# EAGLE library part STM32F777N (library sjg-stm32)
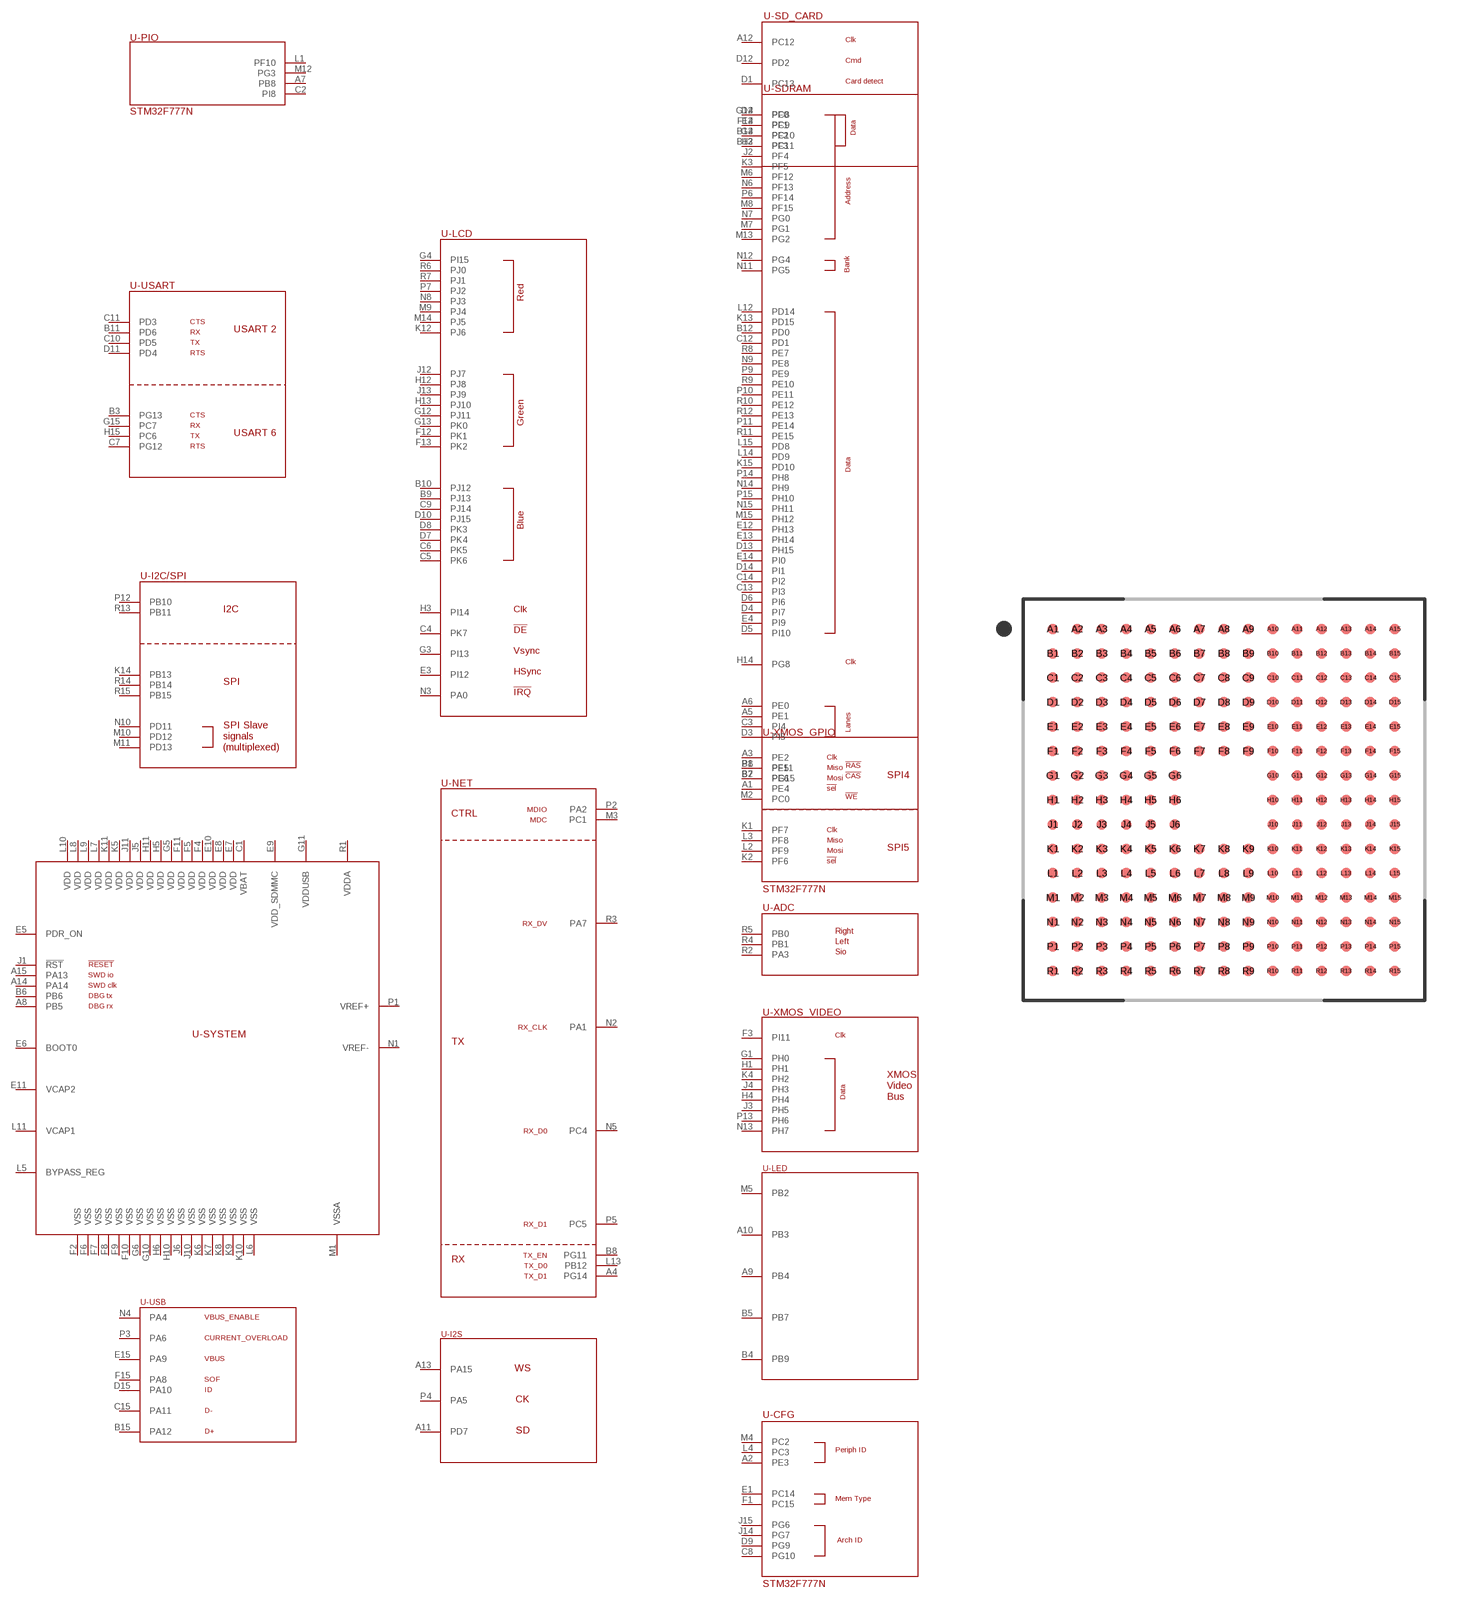
[diagram p0: symbol with the pads of BGA216C80P15X15_1300X1300X110; footprint BGA216C80P15X15_1300X1300X110]

Designator prefix -; gates -PIO=STM32F777N-PIO -I2C/SPI=STM32F777N-I2C-SPI -LCD=STM32F777N-LCD -NET=STM32F777N-NET -SYSTEM=STM32F777N-PWR -SD_CARD=STM32F777N-SD -SDRAM=STM32F777N-SDRAM -USART=STM32F777N-USART -XMOS_GPIO=STM32F777N-XMOS-GPIO -XMOS_VIDEO=STM32F777N-XMOS-VID -LED=STM32F777N-LED -USB=STM32F777N-USB -ADC=STM32F777N-ADC -I2S=STM32F777N-I2S -CFG=STM32F777N-CFG

## STM32F777N  [BGA216C80P15X15_1300X1300X110]
A1  -XMOS_GPIO:PE4
A2  -CFG:PE3
A3  -XMOS_GPIO:PE2
A4  -NET:PG14
A5  -SDRAM:PE1
A6  -SDRAM:PE0
A7  -PIO:PB8
A8  -SYSTEM:PB5
A9  -LED:PB4
A10  -LED:PB3
A11  -I2S:PD7
A12  -SD_CARD:PC12
A13  -I2S:PA15
A14  -SYSTEM:PA14
A15  -SYSTEM:PA13
B1  -XMOS_GPIO:PE5
B2  -XMOS_GPIO:PE6
B3  -USART:PG13
B4  -LED:PB9
B5  -LED:PB7
B6  -SYSTEM:PB6
B7  -SDRAM:PG15
B8  -NET:PG11
B9  -LCD:PJ13
B10  -LCD:PJ12
B11  -USART:PD6
B12  -SDRAM:PD0
B13  -SD_CARD:PC11
B14  -SD_CARD:PC10
B15  -USB:PA12
C1  -SYSTEM:VBAT
C2  -PIO:PI8
C3  -SDRAM:PI4
C4  -LCD:PK7
C5  -LCD:PK6
C6  -LCD:PK5
C7  -USART:PG12
C8  -CFG:PG10
C9  -LCD:PJ14
C10  -USART:PD5
C11  -USART:PD3
C12  -SDRAM:PD1
C13  -SDRAM:PI3
C14  -SDRAM:PI2
C15  -USB:PA11
D1  -SD_CARD:PC13
D2  -SDRAM:PF0
D3  -SDRAM:PI5
D4  -SDRAM:PI7
D5  -SDRAM:PI10
D6  -SDRAM:PI6
D7  -LCD:PK4
D8  -LCD:PK3
D9  -CFG:PG9
D10  -LCD:PJ15
D11  -USART:PD4
D12  -SD_CARD:PD2
D13  -SDRAM:PH15
D14  -SDRAM:PI1
D15  -USB:PA10
E1  -CFG:PC14
E2  -SDRAM:PF1
E3  -LCD:PI12
E4  -SDRAM:PI9
E5  -SYSTEM:PDR_ON
E6  -SYSTEM:BOOT0
E7  -SYSTEM:VDD
E8  -SYSTEM:VDD
E9  -SYSTEM:VDD_SDMMC
E10  -SYSTEM:VDD
E11  -SYSTEM:VCAP2
E12  -SDRAM:PH13
E13  -SDRAM:PH14
E14  -SDRAM:PI0
E15  -USB:PA9
F1  -CFG:PC15
F2  -SYSTEM:VSS
F3  -XMOS_VIDEO:PI11
F4  -SYSTEM:VDD
F5  -SYSTEM:VDD
F6  -SYSTEM:VSS
F7  -SYSTEM:VSS
F8  -SYSTEM:VSS
F9  -SYSTEM:VSS
F10  -SYSTEM:VSS
F11  -SYSTEM:VDD
F12  -LCD:PK1
F13  -LCD:PK2
F14  -SD_CARD:PC9
F15  -USB:PA8
G1  -XMOS_VIDEO:PH0
G2  -SDRAM:PF2
G3  -LCD:PI13
G4  -LCD:PI15
G5  -SYSTEM:VDD
G6  -SYSTEM:VSS
G10  -SYSTEM:VSS
G11  -SYSTEM:VDDUSB
G12  -LCD:PJ11
G13  -LCD:PK0
G14  -SD_CARD:PC8
G15  -USART:PC7
H1  -XMOS_VIDEO:PH1
H2  -SDRAM:PF3
H3  -LCD:PI14
H4  -XMOS_VIDEO:PH4
H5  -SYSTEM:VDD
H6  -SYSTEM:VSS
H10  -SYSTEM:VSS
H11  -SYSTEM:VDD
H12  -LCD:PJ8
H13  -LCD:PJ10
H14  -SDRAM:PG8
H15  -USART:PC6
J1  -SYSTEM:!RST!
J2  -SDRAM:PF4
J3  -XMOS_VIDEO:PH5
J4  -XMOS_VIDEO:PH3
J5  -SYSTEM:VDD
J6  -SYSTEM:VSS
J10  -SYSTEM:VSS
J11  -SYSTEM:VDD
J12  -LCD:PJ7
J13  -LCD:PJ9
J14  -CFG:PG7
J15  -CFG:PG6
K1  -XMOS_GPIO:PF7
K2  -XMOS_GPIO:PF6
K3  -SDRAM:PF5
K4  -XMOS_VIDEO:PH2
K5  -SYSTEM:VDD
K6  -SYSTEM:VSS
K7  -SYSTEM:VSS
K8  -SYSTEM:VSS
K9  -SYSTEM:VSS
K10  -SYSTEM:VSS
K11  -SYSTEM:VDD
K12  -LCD:PJ6
K13  -SDRAM:PD15
K14  -I2C/SPI:PB13
K15  -SDRAM:PD10
L1  -PIO:PF10
L2  -XMOS_GPIO:PF9
L3  -XMOS_GPIO:PF8
L4  -CFG:PC3
L5  -SYSTEM:BYPASS_REG
L6  -SYSTEM:VSS
L7  -SYSTEM:VDD
L8  -SYSTEM:VDD
L9  -SYSTEM:VDD
L10  -SYSTEM:VDD
L11  -SYSTEM:VCAP1
L12  -SDRAM:PD14
L13  -NET:PB12
L14  -SDRAM:PD9
L15  -SDRAM:PD8
M1  -SYSTEM:VSSA
M2  -SDRAM:PC0
M3  -NET:PC1
M4  -CFG:PC2
M5  -LED:PB2
M6  -SDRAM:PF12
M7  -SDRAM:PG1
M8  -SDRAM:PF15
M9  -LCD:PJ4
M10  -I2C/SPI:PD12
M11  -I2C/SPI:PD13
M12  -PIO:PG3
M13  -SDRAM:PG2
M14  -LCD:PJ5
M15  -SDRAM:PH12
N1  -SYSTEM:VREF-
N2  -NET:PA1
N3  -LCD:PA0
N4  -USB:PA4
N5  -NET:PC4
N6  -SDRAM:PF13
N7  -SDRAM:PG0
N8  -LCD:PJ3
N9  -SDRAM:PE8
N10  -I2C/SPI:PD11
N11  -SDRAM:PG5
N12  -SDRAM:PG4
N13  -XMOS_VIDEO:PH7
N14  -SDRAM:PH9
N15  -SDRAM:PH11
P1  -SYSTEM:VREF+
P2  -NET:PA2
P3  -USB:PA6
P4  -I2S:PA5
P5  -NET:PC5
P6  -SDRAM:PF14
P7  -LCD:PJ2
P8  -SDRAM:PF11
P9  -SDRAM:PE9
P10  -SDRAM:PE11
P11  -SDRAM:PE14
P12  -I2C/SPI:PB10
P13  -XMOS_VIDEO:PH6
P14  -SDRAM:PH8
P15  -SDRAM:PH10
R1  -SYSTEM:VDDA
R2  -ADC:PA3
R3  -NET:PA7
R4  -ADC:PB1
R5  -ADC:PB0
R6  -LCD:PJ0
R7  -LCD:PJ1
R8  -SDRAM:PE7
R9  -SDRAM:PE10
R10  -SDRAM:PE12
R11  -SDRAM:PE15
R12  -SDRAM:PE13
R13  -I2C/SPI:PB11
R14  -I2C/SPI:PB14
R15  -I2C/SPI:PB15

## Footprint BGA216C80P15X15_1300X1300X110 (pad centres in mm)
216-BGA, collapsing, 0.8 mm pitch, 13 X 13 X 1.1 mm body 216-pin collapsing BGA package with 0.8 mm col pitch and 0.8 mm row pitch with body size 13 X 13 X 1.1 mm
smd 0.35 x 0.35: A1 -5.6,5.6; A2 -4.8,5.6; A3 -4,5.6; A4 -3.2,5.6; A5 -2.4,5.6; A6 -1.6,5.6; A7 -0.8,5.6; A8 0,5.6; A9 0.8,5.6; A10 1.6,5.6; A11 2.4,5.6; A12 3.2,5.6; A13 4,5.6; A14 4.8,5.6; A15 5.6,5.6; B1 -5.6,4.8; B2 -4.8,4.8; B3 -4,4.8; B4 -3.2,4.8; B5 -2.4,4.8; B6 -1.6,4.8; B7 -0.8,4.8; B8 0,4.8; B9 0.8,4.8; B10 1.6,4.8; B11 2.4,4.8; B12 3.2,4.8; B13 4,4.8; B14 4.8,4.8; B15 5.6,4.8; C1 -5.6,4; C2 -4.8,4; C3 -4,4; C4 -3.2,4; C5 -2.4,4; C6 -1.6,4; C7 -0.8,4; C8 0,4; C9 0.8,4; C10 1.6,4; C11 2.4,4; C12 3.2,4; C13 4,4; C14 4.8,4; C15 5.6,4; D1 -5.6,3.2; D2 -4.8,3.2; D3 -4,3.2; D4 -3.2,3.2; D5 -2.4,3.2; D6 -1.6,3.2; D7 -0.8,3.2; D8 0,3.2; D9 0.8,3.2; D10 1.6,3.2; D11 2.4,3.2; D12 3.2,3.2; D13 4,3.2; D14 4.8,3.2; D15 5.6,3.2; E1 -5.6,2.4; E2 -4.8,2.4; E3 -4,2.4; E4 -3.2,2.4; E5 -2.4,2.4; E6 -1.6,2.4; E7 -0.8,2.4; E8 0,2.4; E9 0.8,2.4; E10 1.6,2.4; E11 2.4,2.4; E12 3.2,2.4; E13 4,2.4; E14 4.8,2.4; E15 5.6,2.4; F1 -5.6,1.6; F2 -4.8,1.6; F3 -4,1.6; F4 -3.2,1.6; F5 -2.4,1.6; F6 -1.6,1.6; F7 -0.8,1.6; F8 0,1.6; F9 0.8,1.6; F10 1.6,1.6; F11 2.4,1.6; F12 3.2,1.6; F13 4,1.6; F14 4.8,1.6; F15 5.6,1.6; G1 -5.6,0.8; G2 -4.8,0.8; G3 -4,0.8; G4 -3.2,0.8; G5 -2.4,0.8; G6 -1.6,0.8; G10 1.6,0.8; G11 2.4,0.8; G12 3.2,0.8; G13 4,0.8; G14 4.8,0.8; G15 5.6,0.8; H1 -5.6,0; H2 -4.8,0; H3 -4,0; H4 -3.2,0; H5 -2.4,0; H6 -1.6,0; H10 1.6,0; H11 2.4,0; H12 3.2,0; H13 4,0; H14 4.8,0; H15 5.6,0; J1 -5.6,-0.8; J2 -4.8,-0.8; J3 -4,-0.8; J4 -3.2,-0.8; J5 -2.4,-0.8; J6 -1.6,-0.8; J10 1.6,-0.8; J11 2.4,-0.8; J12 3.2,-0.8; J13 4,-0.8; J14 4.8,-0.8; J15 5.6,-0.8; K1 -5.6,-1.6; K2 -4.8,-1.6; K3 -4,-1.6; K4 -3.2,-1.6; K5 -2.4,-1.6; K6 -1.6,-1.6; K7 -0.8,-1.6; K8 0,-1.6; K9 0.8,-1.6; K10 1.6,-1.6; K11 2.4,-1.6; K12 3.2,-1.6; K13 4,-1.6; K14 4.8,-1.6; K15 5.6,-1.6; L1 -5.6,-2.4; L2 -4.8,-2.4; L3 -4,-2.4; L4 -3.2,-2.4; L5 -2.4,-2.4; L6 -1.6,-2.4; L7 -0.8,-2.4; L8 0,-2.4; L9 0.8,-2.4; L10 1.6,-2.4; L11 2.4,-2.4; L12 3.2,-2.4; L13 4,-2.4; L14 4.8,-2.4; L15 5.6,-2.4; M1 -5.6,-3.2; M2 -4.8,-3.2; M3 -4,-3.2; M4 -3.2,-3.2; M5 -2.4,-3.2; M6 -1.6,-3.2; M7 -0.8,-3.2; M8 0,-3.2; M9 0.8,-3.2; M10 1.6,-3.2; M11 2.4,-3.2; M12 3.2,-3.2; M13 4,-3.2; M14 4.8,-3.2; M15 5.6,-3.2; N1 -5.6,-4; N2 -4.8,-4; N3 -4,-4; N4 -3.2,-4; N5 -2.4,-4; N6 -1.6,-4; N7 -0.8,-4; N8 0,-4; N9 0.8,-4; N10 1.6,-4; N11 2.4,-4; N12 3.2,-4; N13 4,-4; N14 4.8,-4; N15 5.6,-4; P1 -5.6,-4.8; P2 -4.8,-4.8; P3 -4,-4.8; P4 -3.2,-4.8; P5 -2.4,-4.8; P6 -1.6,-4.8; P7 -0.8,-4.8; P8 0,-4.8; P9 0.8,-4.8; P10 1.6,-4.8; P11 2.4,-4.8; P12 3.2,-4.8; P13 4,-4.8; P14 4.8,-4.8; P15 5.6,-4.8; R1 -5.6,-5.6; R2 -4.8,-5.6; R3 -4,-5.6; R4 -3.2,-5.6; R5 -2.4,-5.6; R6 -1.6,-5.6; R7 -0.8,-5.6; R8 0,-5.6; R9 0.8,-5.6; R10 1.6,-5.6; R11 2.4,-5.6; R12 3.2,-5.6; R13 4,-5.6; R14 4.8,-5.6; R15 5.6,-5.6